# EAGLE library part MS_CELL (library _mtvl.cells)
MS MATRIX CELL Designed by Kirill V.Trepakov trepakovk@gmail.com © 2018
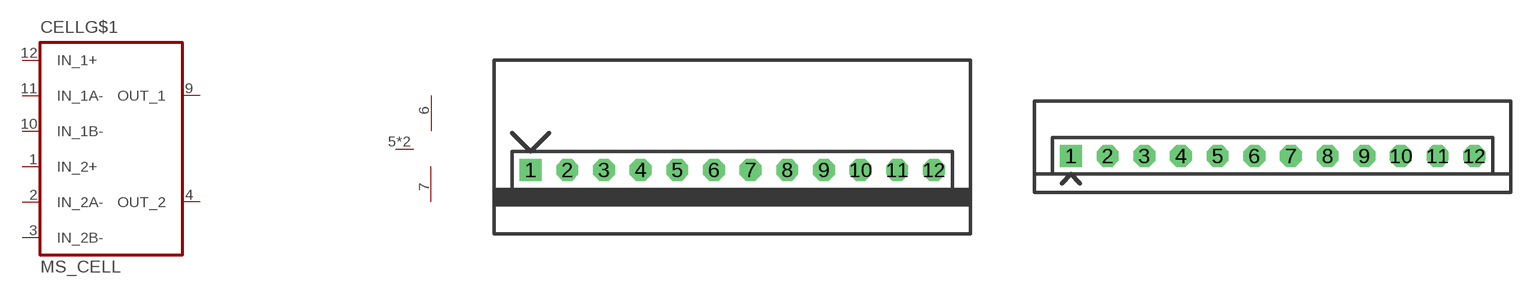
[diagram p3: symbol with the pads of SP-12-TH; footprints SP-12-TH, SIP-12-H]

Designator prefix CELL; gates G$1=MS_CELL G$2=PWR+/-/GND

## MS_CELLTH  [SP-12-TH]
1  G$1:IN_2+  in
2  G$1:IN_2A-  in
3  G$1:IN_2B-  in
4  G$1:OUT_2  out
5  G$2:GND  pwr
6  G$2:V+  pwr
7  G$2:V-  pwr
8  G$2:GND  pwr
9  G$1:OUT_1  out
10  G$1:IN_1B-  in
11  G$1:IN_1A-  in
12  G$1:IN_1+  in

## MS_CELLSMD  [SIP-12-H]
Pads as for SP-12-TH

## Footprint SP-12-TH (pad centres in mm)
drill 1 square: 1 -13.97,0
drill 1 octagon: 2 -11.43,0; 3 -8.89,0; 4 -6.35,0; 5 -3.81,0; 6 -1.27,0; 7 1.27,0; 8 3.81,0; 9 6.35,0; 10 8.89,0; 11 11.43,0; 12 13.97,0

## Footprint SIP-12-H (pad centres in mm)
drill 1 square: 1 -13.97,0
drill 1 octagon: 2 -11.43,0; 3 -8.89,0; 4 -6.35,0; 5 -3.81,0; 6 -1.27,0; 7 1.27,0; 8 3.81,0; 9 6.35,0; 10 8.89,0; 11 11.43,0; 12 13.97,0